# Altium schematic symbol library SCH - BUFFERS - ON SEMI NC7WZ17P6X.SCHLIB: 1 symbol
Pins are listed as number, name and electrical type; pins without a type are passive.

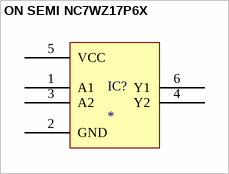
[diagram p0: symbol ON SEMI NC7WZ17P6X]

## ON SEMI NC7WZ17P6X
designator IC?
pins: 1 A1, 2 GND, 3 A2, 4 Y2, 5 VCC, 6 Y1